# Altium integrated library 78M05.IntLib: 1 symbol
Pins are listed as number, name and electrical type; pins without a type are passive.

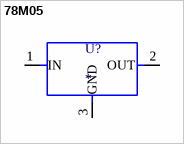
[diagram p0: symbol 78M05]

## 78M05
designator U?
Linear Voltage Regulator IC Positive Fixed 1 Output 1A TO-252 (DPAK); MF: UMW; MP: 78M05; SnapEDA_Link: https://www.snapeda.com/parts/78M05/Umwelt+Sensor+Teknik/view-part/?ref=snap; Package: None; Value: *; Check_prices: https://www.snapeda.com/parts/78M05/Umwelt+Sensor+Teknik/view-part/?ref=eda
footprint TO252
pins: 1 IN (io), 2 OUT (io), 3 GND (io)